# EAGLE library part 691312510010 (library Wurth_Elektronik_Electromechanic_Terminal_Blocks_Connectors_rev16b)
WR-TBL Serie 312 - 5.08 mm Open Horizontal PCB Header , 10 Pins=>Code : Con_TBL_Pluggable_5.08_PCB_THT_Simple_H_691312510010 <http://katalog.we-online.de/media/images/eican/Con_TBL_Pluggable_5.08_PCB_THT_Simple_H_6913125100xx_pf2.jpg> Details see: http://katalog.we-online.de/en/em/691_312_510_0xx Created 2014-06-25, Karrer Zheng 2014 (C) Würth Elektronik
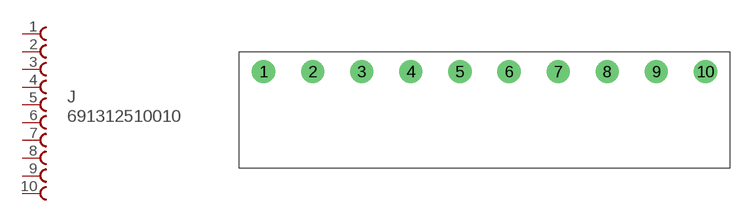
[diagram p134: symbol with the pads of 691312510010; footprint 691312510010]

Designator prefix J

## 691312510010  [691312510010]
1  1  pas
2  2  pas
3  3  pas
4  4  pas
5  5  pas
6  6  pas
7  7  pas
8  8  pas
9  9  pas
10  10  pas

## Footprint 691312510010 (pad centres in mm)
WR-TBL Serie 312 - 5.08 mm Open Horizontal PCB Header , 10 Pins
drill 1.6: 1 -20.32,0; 2 -15.24,0; 3 -10.16,0; 4 -5.08,0; 5 0,0; 6 5.08,0; 7 10.16,0; 8 15.24,0; 9 20.32,0; 10 25.4,0